# Altium footprint library LABLIB.PcbLib: 95 footprints (part 5 of 6)
Each footprint in its own frame and in the unit in brackets; x right, y up, seen from the top. Pads: shape width x height; smd on the part's side, far side on the other; paste and mask are expansions set on the pad; w line width, h text height; cw(c..) or ccw(c..) is an arc to the next point about the centre after c.
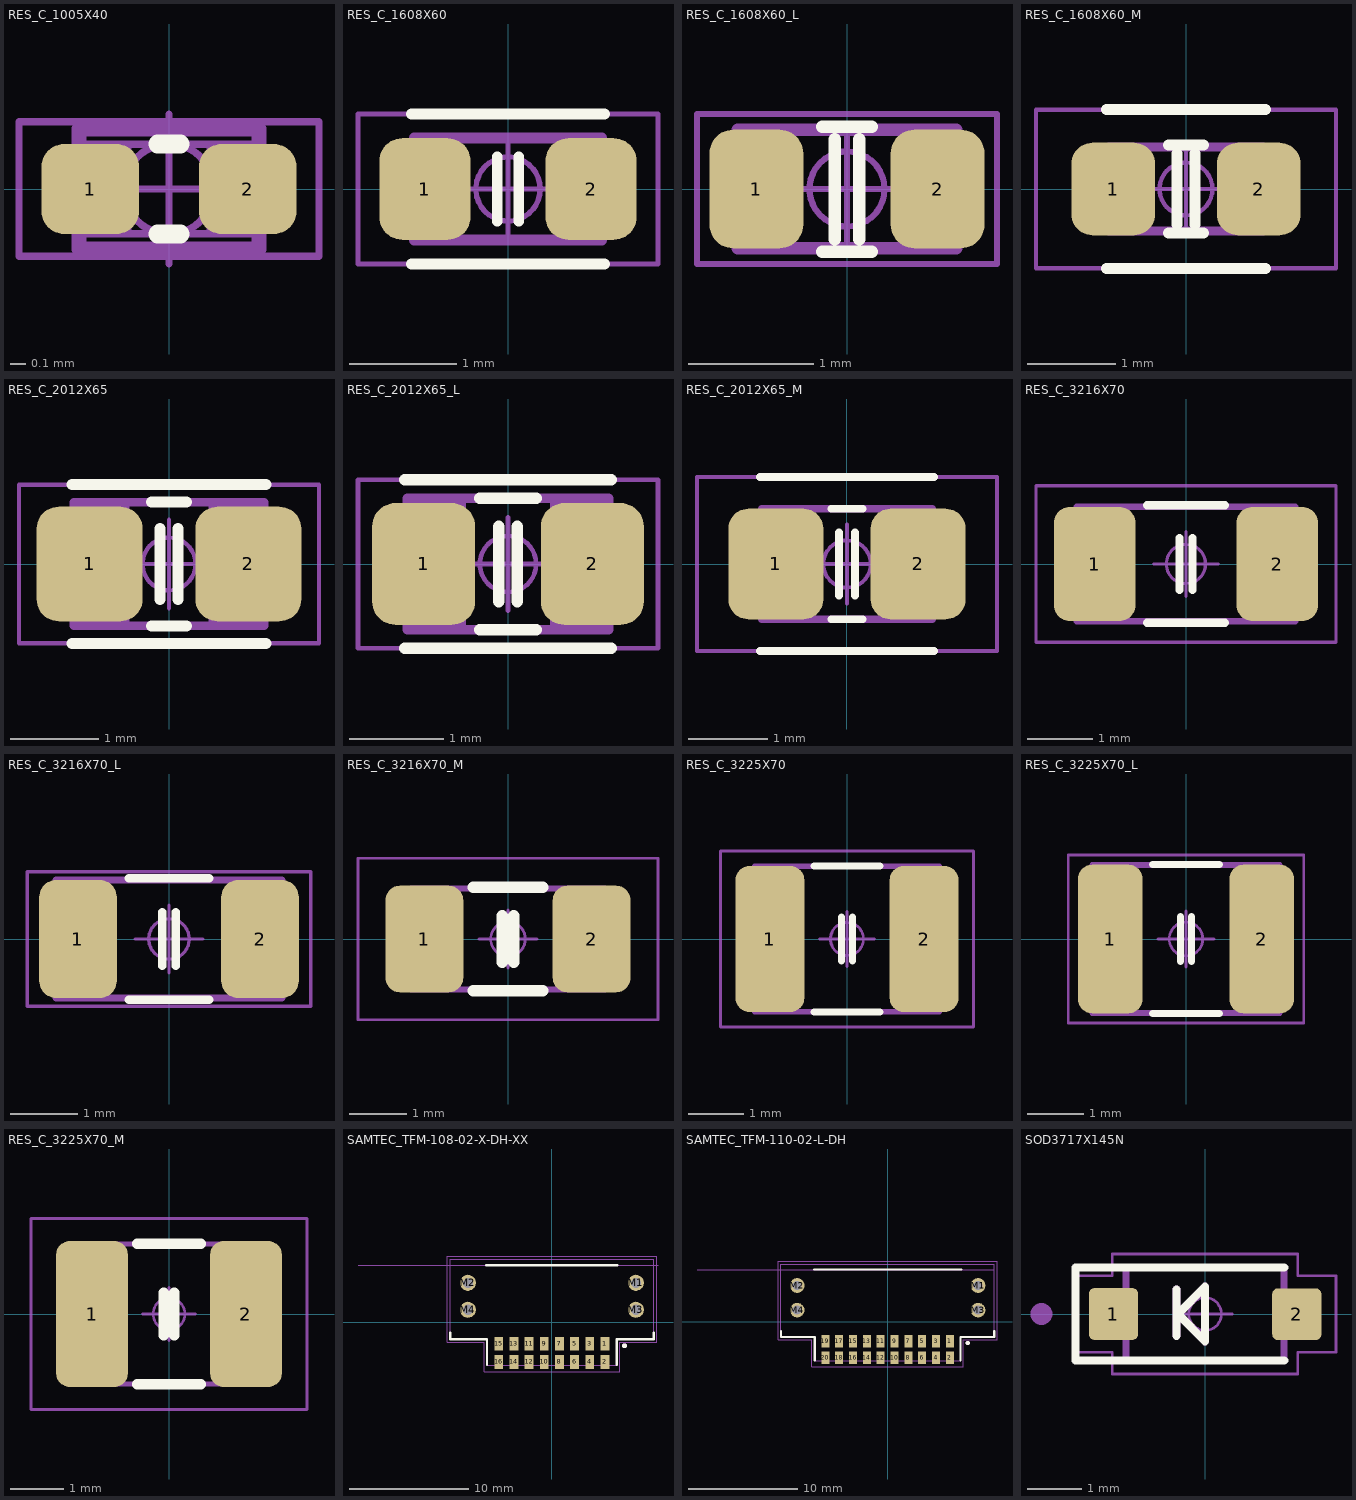
[diagram p4: the footprints below, top view; thin cyan lines are the x and y axes]

## RES_C_1005X40 [mm]
pads (2):
  rrect50% 0.65x0.6 smd mask+0.05: 1(-0.525,0) 2(0.525,0)
Top Overlay:
  lines w0.125: -0.075,-0.3 0.075,-0.3 ; -0.075,0.3 0.075,0.3
Top Assembly:
  lines w0.1: -0.6,-0.4 0.6,-0.4 0.6,0.4 -0.6,0.4 -0.6,-0.4
  text "'.Designator'" at -4.433,-0.827 h1.6
Top Courtyard:
  lines w0.05: -1,-0.45 -1,0.45 1,0.45 1,-0.45 -0.575,-0.45 -1,-0.45
Top Component Outline:
  rectangle: -0.55,-0.3 -0.25,0.3
  rectangle: 0.25,-0.3 0.55,0.3
  lines w0.05: -0.55,-0.3 0.55,-0.3 0.55,0.3 -0.55,0.3 -0.55,-0.3
Top Component Center:
  circle w0.05: c0,0 r0.3
  lines w0.05: -0.5,0 0.5,0 ; 0,-0.5 0,0.5
3D body "6-1622826-4.stp": height 0.38, standoff 0.02, extent -0.5,-0.25 0.5,0.25

## RES_C_1608X60 [mm] "Chip Resistor, 2-Leads, Body 1.63x0.83mm, IPC High Density"
height 0.6
pads (2):
  rrect50% 0.85x0.95 smd: 1(-0.775,0) 2(0.775,0)
Top Overlay:
  lines w0.1: -0.9,-0.7 0.9,-0.7 ; -0.9,0.7 0.9,0.7 ; -0.1,-0.3 -0.1,0.3 ; 0.1,-0.3 0.1,0.3
Top Assembly:
  lines w0.1: -0.875,-0.475 0.875,-0.475 0.875,0.475 -0.875,0.475 -0.875,-0.475
Top Courtyard:
  lines w0.05: -1.4,-0.7 1.4,-0.7 1.4,0.7 -1.4,0.7 -1.4,-0.7
Top Component Outline:
  rectangle: 0.475,-0.475 0.875,0.475
  rectangle: -0.875,-0.475 -0.475,0.475
  lines w0.05: -0.875,-0.475 -0.875,0.475 0.875,0.475 0.875,-0.475 -0.875,-0.475
Top Component Center:
  circle w0.05: c0,0 r0.3
  lines w0.05: -0.5,0 0.5,0 ; 0,-0.5 0,0.5
3D body "RESC1608X60.step": height 0.6, standoff 0, extent -0.875,-0.475 0.875,0.475

## RES_C_1608X60_L [mm] "Chip Resistor, 2-Leads, Body 1.63x0.83mm, IPC High Density"
height 0.6
pads (2):
  rrect50% 0.75x0.95 smd: 1(-0.725,0) 2(0.725,0)
Top Overlay:
  lines w0.1: -0.2,-0.5 0.2,-0.5 ; -0.2,0.5 0.2,0.5 ; -0.1,-0.4 -0.1,0.4 ; 0.1,-0.4 0.1,0.4
Top Assembly:
  lines w0.1: -0.875,-0.475 0.875,-0.475 0.875,0.475 -0.875,0.475 -0.875,-0.475
  text "'.Designator'" at -4.217,-0.663 h1.6
Top Courtyard:
  lines w0.05: -1.2,-0.6 -1.2,0.6 1.2,0.6 1.2,-0.6 -1.2,-0.6
Top Component Outline:
  rectangle: 0.475,-0.475 0.875,0.475
  rectangle: -0.875,-0.475 -0.475,0.475
  lines w0.05: -0.875,-0.475 -0.875,0.475 0.875,0.475 0.875,-0.475 -0.875,-0.475
Top Component Center:
  circle w0.05: c0,0 r0.3
  lines w0.05: -0.5,0 0.5,0 ; 0,-0.5 0,0.5
3D body "RESC1608X60_L.step": height 0.6, standoff 0, extent -0.875,-0.475 0.875,0.475

## RES_C_1608X60_M [mm] "Chip Resistor, 2-Leads, Body 1.63x0.83mm, IPC High Density"
height 0.6
pads (2):
  rrect50% 0.95x1.05 smd: 1(-0.825,0) 2(0.825,0)
Top Overlay:
  lines w0.125: -0.9,-0.9 0.9,-0.9 ; -0.9,0.9 0.9,0.9 ; -0.2,-0.5 0.2,-0.5 ; -0.2,0.5 0.2,0.5 ; -0.1,-0.4 -0.1,0.4 ; 0.1,-0.4 0.1,0.4
Top Assembly:
  lines w0.1: -0.875,-0.475 -0.875,0.475 0.875,0.475 0.875,-0.475 -0.875,-0.475
  text "'.Designator'" at -4.217,-0.663 h1.6
Top Courtyard:
  lines w0.05: -1.7,-0.9 -1.7,0.9 1.7,0.9 1.7,-0.9 -1.7,-0.9
Top Component Outline:
  rectangle: 0.475,-0.475 0.875,0.475
  rectangle: -0.875,-0.475 -0.475,0.475
  lines w0.05: -0.875,-0.475 -0.875,0.475 0.875,0.475 0.875,-0.475 -0.875,-0.475
Top Component Center:
  circle w0.05: c0,0 r0.3
  lines w0.05: -0.5,0 0.5,0 ; 0,-0.5 0,0.5
3D body "RESC1608X60_M.step": height 0.6, standoff 0, extent -0.875,-0.475 0.875,0.475

## RES_C_2012X65 [mm] "Chip Resistor, 2-Leads, Body 2.00x1.25mm, IPC High Density"
height 0.65
pads (2):
  rrect41% 1.2x1.3 smd: 1(-0.9,0) 2(0.9,0)
Top Overlay:
  lines w0.125: -1.1,-0.9 1.1,-0.9 ; -1.1,0.9 1.1,0.9 ; -0.2,-0.7 0.2,-0.7 ; -0.2,0.7 0.2,0.7 ; -0.1,-0.4 -0.1,0.4 ; 0.1,-0.4 0.1,0.4
Top Assembly:
  lines w0.1: -1.075,-0.7 1.075,-0.7 1.075,0.7 -1.075,0.7 -1.075,-0.7
  text "'.Designator'" at -4.217,-0.663 h1.6
Top Courtyard:
  lines w0.05: -1.7,-0.9 1.7,-0.9 1.7,0.9 -1.7,0.9 -1.7,-0.9
Top Component Outline:
  rectangle: -1.1,-0.7 -0.45,0.7
  region: 1.1,0.7 0.45,0.7 0.45,-0.7 1.1,-0.7
  lines w0.05: -1.1,-0.7 -1.1,0.7 1.1,0.7 1.1,-0.7 -1.1,-0.7
Top Component Center:
  circle w0.05: c0,0 r0.3
  lines w0.05: -0.5,0 0.5,0 ; 0,-0.5 0,0.5
3D body "RESC2012X65.step": height 0.65, standoff 0, extent -1.075,-0.7 1.075,0.7

## RES_C_2012X65_L [mm] "Chip Resistor, 2-Leads, Body 2.00x1.25mm, IPC Medium Density"
height 0.65
pads (2):
  rrect45% 1.1x1.3 smd: 1(-0.9,0) 2(0.9,0)
Top Overlay:
  lines w0.125: -1.1,-0.9 1.1,-0.9 ; -1.1,0.9 1.1,0.9 ; -0.3,-0.7 0.3,-0.7 ; -0.3,0.7 0.3,0.7 ; -0.1,-0.4 -0.1,0.4 ; 0.1,-0.4 0.1,0.4
Top Assembly:
  lines w0.1: -1.075,-0.7 -1.075,0.7 1.075,0.7 1.075,-0.7 -1.075,-0.7
  text "'.Designator'" at -4.217,-0.663 h1.6
Top Courtyard:
  lines w0.05: -1.6,-0.9 -1.6,0.9 1.6,0.9 1.6,-0.9 -1.6,-0.9
Top Component Outline:
  rectangle: -1.1,-0.7 -0.45,0.7
  region: 1.1,0.7 0.45,0.7 0.45,-0.7 1.1,-0.7
  lines w0.05: -1.1,-0.7 -1.1,0.7 1.1,0.7 1.1,-0.7 -1.1,-0.7
Top Component Center:
  circle w0.05: c0,0 r0.3
  lines w0.05: -0.5,0 0.5,0 ; 0,-0.5 0,0.5
3D body "RESC2012X65_L.step": height 0.65, standoff 0, extent -1.075,-0.7 1.075,0.7

## RES_C_2012X65_M [mm] "Chip Resistor, 2-Leads, Body 2.00x1.25mm, IPC Medium Density"
height 0.65
pads (2):
  rrect41% 1.2x1.4 smd: 1(-0.9,0) 2(0.9,0)
Top Overlay:
  lines w0.1: -1.1,-1.1 1.1,-1.1 ; -1.1,1.1 1.1,1.1 ; -0.2,-0.7 0.2,-0.7 ; -0.2,0.7 0.2,0.7 ; -0.1,-0.4 -0.1,0.4 ; 0.1,-0.4 0.1,0.4
Top Assembly:
  lines w0.1: -1.075,-0.7 -1.075,0.7 1.075,0.7 1.075,-0.7 -1.075,-0.7
  text "'.Designator'" at -4.217,-0.663 h1.6
Top Courtyard:
  lines w0.05: -1.9,-1.1 1.9,-1.1 1.9,1.1 -1.9,1.1 -1.9,-1.1
Top Component Outline:
  rectangle: -1.075,-0.675 -0.425,0.725
  region: 1.075,0.7 0.425,0.7 0.425,-0.7 1.075,-0.7
  lines w0.05: -1.075,-0.7 -1.075,0.7 1.075,0.7 1.075,-0.7 -1.075,-0.7
Top Component Center:
  circle w0.05: c0,0 r0.3
  lines w0.05: -0.5,0 0.5,0 ; 0,-0.5 0,0.5
3D body "RESC2012X65_M.step": height 0.65, standoff 0, extent -1.075,-0.7 1.075,0.7

## RES_C_3216X70 [mm] "Chip Resistor, 2-Leads, Body 3.20x1.60mm, IPC Medium Density"
height 0.71
pads (2):
  rrect39% 1.25x1.75 smd: 1(-1.4,0) 2(1.4,0)
Top Overlay:
  lines w0.125: -0.6,-0.9 0.6,-0.9 ; -0.6,0.9 0.6,0.9 ; -0.1,-0.4 -0.1,0.4 ; 0.1,-0.4 0.1,0.4
Top Assembly:
  lines w0.1: -1.675,-0.875 1.675,-0.875 1.675,0.875 -1.675,0.875 -1.675,-0.875
  text "'.Designator'" at -4.217,-0.663 h1.6
Top Courtyard:
  lines w0.05: -2.3,-1.2 2.3,-1.2 2.3,1.2 -2.3,1.2 -2.3,-1.2
Top Component Outline:
  region: 1.675,0.875 0.925,0.875 0.925,-0.875 1.675,-0.875
  rectangle: -1.675,-0.875 -0.925,0.875
  lines w0.05: -1.675,-0.875 1.675,-0.875 1.675,0.875 -1.675,0.875 -1.675,-0.875
Top Component Center:
  circle w0.05: c0,0 r0.3
  lines w0.05: -0.5,0 0.5,0 ; 0,-0.5 0,0.5
3D body "RESC3216X70.step": height 0.71, standoff 0, extent -1.675,-0.875 1.675,0.875

## RES_C_3216X70_L [mm] "Chip Resistor, 2-Leads, Body 3.20x1.60mm, IPC Medium Density"
height 0.71
pads (2):
  rrect43% 1.15x1.75 smd: 1(-1.35,0) 2(1.35,0)
Top Overlay:
  lines w0.125: -0.6,-0.9 0.6,-0.9 ; -0.6,0.9 0.6,0.9 ; -0.1,-0.4 -0.1,0.4 ; 0.1,-0.4 0.1,0.4
Top Assembly:
  lines w0.1: -1.675,-0.875 -1.675,0.875 1.675,0.875 1.675,-0.875 -1.675,-0.875
  text "'.Designator'" at -4.217,-0.663 h1.6
Top Courtyard:
  lines w0.05: -2.1,-1 -2.1,1 2.1,1 2.1,-1 -2.1,-1
Top Component Outline:
  region: 1.675,0.875 0.925,0.875 0.925,-0.875 1.675,-0.875
  rectangle: -1.675,-0.875 -0.925,0.875
  lines w0.05: -1.675,-0.875 -1.675,0.875 1.675,0.875 1.675,-0.875 -1.675,-0.875
Top Component Center:
  circle w0.05: c0,0 r0.3
  lines w0.05: -0.5,0 0.5,0 ; 0,-0.5 0,0.5
3D body "RESC3216X070_L.step": height 0.71, standoff 0, extent -1.675,-0.875 1.675,0.875

## RES_C_3216X70_M [mm] "Chip Resistor, 2-Leads, Body 3.20x1.60mm, IPC Medium Density"
height 0.71
pads (2):
  rrect37% 1.35x1.85 smd: 1(-1.45,0) 2(1.45,0)
Top Overlay:
  lines w0.2: -0.6,-0.9 0.6,-0.9 ; -0.6,0.9 0.6,0.9 ; -0.1,-0.4 -0.1,0.4 ; 0.1,-0.4 0.1,0.4
Top Assembly:
  lines w0.1: -1.675,-0.875 -1.675,0.875 1.675,0.875 1.675,-0.875 -1.675,-0.875
  text "'.Designator'" at -4.217,-0.663 h1.6
Top Courtyard:
  lines w0.05: -2.6,-1.4 2.6,-1.4 2.6,1.4 -2.6,1.4 -2.6,-1.4
Top Component Outline:
  rectangle: -1.675,-0.875 -0.925,0.875
  region: 1.675,0.875 0.925,0.875 0.925,-0.875 1.675,-0.875
  lines w0.05: -1.675,-0.875 1.675,-0.875 1.675,0.875 -1.675,0.875 -1.675,-0.875
Top Component Center:
  circle w0.05: c0,0 r0.3
  lines w0.05: -0.5,0 0.5,0 ; 0,-0.5 0,0.5
3D body "RESC3216X70_M.step": height 0.71, standoff 0, extent -1.675,-0.875 1.675,0.875

## RES_C_3225X70 [mm] "Chip Resistor, 2-Leads, Body 3.20x2.49mm, IPC Medium Density"
height 0.71
pads (2):
  rrect39% 1.25x2.65 smd: 1(-1.4,0) 2(1.4,0)
Top Overlay:
  lines w0.125: -0.6,-1.325 0.6,-1.325 ; -0.6,1.325 0.6,1.325 ; -0.1,-0.4 -0.1,0.4 ; 0.1,-0.4 0.1,0.4
Top Assembly:
  lines w0.1: -1.675,-1.32 -1.675,1.32 1.675,1.32 1.675,-1.32 -1.675,-1.32
  text "'.Designator'" at -4.217,-0.663 h1.6
Top Courtyard:
  lines w0.05: -2.3,-1.6 -2.3,1.6 2.3,1.6 2.3,-1.6 -2.3,-1.6
Top Component Outline:
  rectangle: -1.675,-1.315 -0.925,1.325
  region: 1.675,1.315 0.925,1.315 0.925,-1.325 1.675,-1.325
  lines w0.05: -1.675,-1.325 1.675,-1.325 1.675,1.325 -1.675,1.325 -1.675,-1.325
Top Component Center:
  circle w0.05: c0,0 r0.3
  lines w0.05: -0.5,0 0.5,0 ; 0,-0.5 0,0.5
3D body "RESC3225X70.step": height 0.71, standoff 0, extent -1.675,-1.32 1.675,1.32

## RES_C_3225X70_L [mm] "Chip Resistor, 2-Leads, Body 3.20x2.49mm, IPC Medium Density"
height 0.71
pads (2):
  rrect43% 1.15x2.65 smd: 1(-1.35,0) 2(1.35,0)
Top Overlay:
  lines w0.125: -0.6,-1.325 0.6,-1.325 ; -0.6,1.325 0.6,1.325 ; -0.1,-0.4 -0.1,0.4 ; 0.1,-0.4 0.1,0.4
Top Assembly:
  lines w0.1: -1.675,-1.32 1.675,-1.32 1.675,1.32 -1.675,1.32 -1.675,-1.32
  text "'.Designator'" at -4.217,-0.663 h1.6
Top Courtyard:
  lines w0.05: -2.1,-1.5 2.1,-1.5 2.1,1.5 -2.1,1.5 -2.1,-1.5
Top Component Outline:
  rectangle: -1.675,-1.315 -0.925,1.325
  region: 1.675,1.315 0.925,1.315 0.925,-1.325 1.675,-1.325
  lines w0.05: -1.675,-1.325 1.675,-1.325 1.675,1.325 -1.675,1.325 -1.675,-1.325
Top Component Center:
  circle w0.05: c0,0 r0.3
  lines w0.05: -0.5,0 0.5,0 ; 0,-0.5 0,0.5
3D body "RESC3225X70_L.step": height 0.71, standoff 0, extent -1.675,-1.32 1.675,1.32

## RES_C_3225X70_M [mm] "Chip Resistor, 2-Leads, Body 3.20x2.49mm, IPC Medium Density"
height 0.71
pads (2):
  rrect37% 1.35x2.75 smd: 1(-1.45,0) 2(1.45,0)
Top Overlay:
  lines w0.2: -0.6,-1.325 0.6,-1.325 ; -0.6,1.325 0.6,1.325 ; -0.1,-0.4 -0.1,0.4 ; 0.1,-0.4 0.1,0.4
Top Assembly:
  lines w0.1: -1.675,-1.32 -1.675,1.32 1.675,1.32 1.675,-1.32 -1.675,-1.32
  text "'.Designator'" at -4.217,-0.663 h1.6
Top Courtyard:
  lines w0.05: -2.6,-1.8 -2.6,1.8 2.6,1.8 2.6,-1.8 -2.6,-1.8
Top Component Outline:
  rectangle: -1.675,-1.315 -0.925,1.325
  region: 1.675,1.315 0.925,1.315 0.925,-1.325 1.675,-1.325
  lines w0.05: -1.675,-1.325 1.675,-1.325 1.675,1.325 -1.675,1.325 -1.675,-1.325
Top Component Center:
  circle w0.05: c0,0 r0.3
  lines w0.05: -0.5,0 0.5,0 ; 0,-0.5 0,0.5
3D body "RESC3225X70_M.step": height 0.71, standoff 0, extent -1.675,-1.32 1.675,1.32

## SAMTEC_TFM-108-02-X-DH-XX [mm]
pads (20):
  rect 0.74x1.14 smd: 1(4.445,-1.795) 2(4.445,-3.315) 3(3.175,-1.795) 4(3.175,-3.315) 5(1.905,-1.795) 6(1.905,-3.315) 7(0.635,-1.795) 8(0.635,-3.315) 9(-0.635,-1.795) 10(-0.635,-3.315) 11(-1.905,-1.795) 12(-1.905,-3.315) 13(-3.175,-1.795) 14(-3.175,-3.315) 15(-4.445,-1.795) 16(-4.445,-3.315)
  round 1.348 hole 0.84: M1(7.035,3.315) M2(-7.035,3.315) M3(7.035,1.055) M4(-7.035,1.055)
Top Overlay:
  circle w0.2: c6.08,-1.965 r0.1
  lines w0.2: -8.52,-0.865 -8.52,-1.405 -5.425,-1.405 -5.425,-3.575 ; -5.48,4.785 5.48,4.785 ; 5.425,-3.575 5.425,-1.405 8.52,-1.405 8.52,-0.865
Top Paste:
  region: -5.955,2.375 -8.415,2.375 -8.415,4.665 -5.955,4.665
  region: -5.955,-0.465 -8.415,-0.465 -8.415,1.995 -5.955,1.995
  region: 8.415,2.375 5.955,2.375 5.955,4.665 8.415,4.665
  region: 8.415,-0.465 5.955,-0.465 5.955,1.995 8.415,1.995
Top Assembly:
  lines w0.025: 0.635,4.785 8.89,4.785
  lines w0.1: -16.23,4.785 8.52,4.785 ; 8.52,4.785 8.52,5.285 -8.52,5.285 -8.52,-1.405 -5.425,-1.405 -5.425,-3.575 5.425,-3.575 5.425,-1.405 8.52,-1.405 8.52,4.785
  text "PCB EDGE" at -8.89,4.985 h1
Mechanical 13:
  circle w0.2: c6.08,-1.965 r0.1
Mechanical 15:
  lines w0.05: -8.77,-1.655 -5.675,-1.655 -5.675,-4.135 5.675,-4.135 5.675,-1.655 8.77,-1.655 8.77,5.535 -8.77,5.535 -8.77,-1.655
3D body "TFM-108-02-L-DH.stp": height 1.95, standoff -6.41, extent -8.522,-3.691 8.522,5.301
3D body "isdf-10-d.stp": height 6.17, standoff -0.18, extent -6.54,0.624 6.54,11.8

## SAMTEC_TFM-110-02-L-DH [mm]
pads (24):
  rect 0.74x1.14 smd: 1(5.715,-1.795) 2(5.715,-3.315) 3(4.445,-1.795) 4(4.445,-3.315) 5(3.175,-1.795) 6(3.175,-3.315) 7(1.905,-1.795) 8(1.905,-3.315) 9(0.635,-1.795) 10(0.635,-3.315) 11(-0.635,-1.795) 12(-0.635,-3.315) 13(-1.905,-1.795) 14(-1.905,-3.315) 15(-3.175,-1.795) 16(-3.175,-3.315) 17(-4.445,-1.795) 18(-4.445,-3.315) 19(-5.715,-1.795) 20(-5.715,-3.315)
  round 1.348 hole 0.84: M1(8.305,3.315) M2(-8.305,3.315) M3(8.305,1.055) M4(-8.305,1.055)
Top Overlay:
  circle w0.2: c7.355,-1.965 r0.1
  lines w0.2: -9.79,-0.865 -9.79,-1.405 -6.695,-1.405 -6.695,-3.575 ; -6.75,4.785 6.75,4.785 ; 6.695,-3.575 6.695,-1.405 9.79,-1.405 9.79,-0.865
Top Paste:
  region: 9.685,2.375 7.225,2.375 7.225,4.665 9.685,4.665
  region: 9.685,-0.465 7.225,-0.465 7.225,1.995 9.685,1.995
  region: -7.225,2.375 -9.685,2.375 -9.685,4.665 -7.225,4.665
  region: -7.225,-0.465 -9.685,-0.465 -9.685,1.995 -7.225,1.995
Mechanical 13:
  circle w0.2: c7.355,-1.965 r0.1
  lines w0.1: -17.5,4.785 9.79,4.785 ; 9.79,4.785 9.79,-1.405 6.695,-1.405 6.695,-3.575 -6.695,-3.575 -6.695,-1.405 -9.79,-1.405 -9.79,5.285 9.79,5.285 9.79,4.785
  text "PCB EDGE" at -17.6,5.035 h1
Mechanical 15:
  lines w0.05: -10.04,-1.655 -10.04,5.535 10.04,5.535 10.04,-1.655 6.945,-1.655 6.945,-4.135 -6.945,-4.135 -6.945,-1.655 -10.04,-1.655
3D body "TFM-110-02-L-DH.stp": height 6.06, standoff -2.3, extent -9.792,-3.686 9.792,5.306

## SOD3717X145N [mm]
pads (2):
  rrect22% 0.9x0.95 smd: 1(-1.68,0) 2(1.681,-0.003)
Top Overlay:
  lines w0.15: -0.525,-0.4 -0.525,0.45 ; 1.45,-0.85 -2.375,-0.85 -2.375,0.85 1.45,0.85 ; -0.5,0 0,-0.5 0,0.375 0,0.5 -0.5,0
Top Assembly:
  lines w0.127: -1.45,-0.85 -1.45,0.85 1.45,0.85 1.45,-0.85 -1.45,-0.85
  lines w0.15: -0.525,-0.4 -0.525,0.45 ; -0.5,0 0,-0.5 0,0.375 0,0.5 -0.5,0
  text "'.Designator'" at -3.952,-0.622 h1.5
Top Courtyard:
  lines w0.05: -2.4,-0.7 -2.4,0.7 -1.7,0.7 -1.7,1.1 1.5,1.1 1.7,1.1 1.7,0.7 2.4,0.7 2.4,-0.7 1.7,-0.7 1.7,-1.1 -1.7,-1.1 -1.7,-0.7 -2.4,-0.7
Top Component Outline:
  region: -1.525,0.3 -1.925,0.3 -1.925,-0.3 -1.525,-0.3
  rectangle: 1.525,-0.3 1.925,0.3
  lines w0.05: -1.45,-0.85 -1.45,0.85 1.45,0.85 1.45,-0.85 -1.45,-0.85
Top Component Center:
  circle w0.05: c0,0 r0.3
  lines w0.05: -0.5,0 0.5,0 ; 0,-0.5 0,0.5
Mechanical 13:
  circle w0.2: c-3,0 r0.1
3D body "step_temp.STEP": height 1.5, standoff -0.03, extent -1.825,-0.775 1.825,0.775